# Altium schematic symbol library Jumper 4X2.SchLib: 1 symbol
Pins are listed as number, name and electrical type; pins without a type are passive.

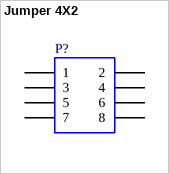
[diagram p0: symbol Jumper 4X2]

## Jumper 4X2
designator P?
Jumper, 4-Pin, Dual row
pins: 1, 2, 3, 4, 5, 6, 7, 8